# EAGLE library part SP314 (library dec-con)
7-Input NOR gate
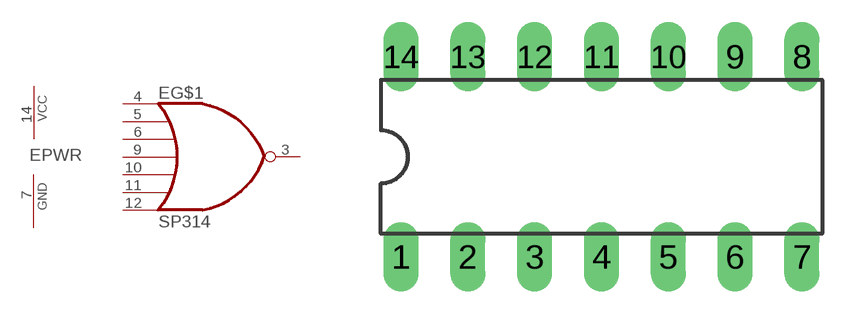
[diagram p13: symbol with the pads of DIL14; footprint DIL14]

Designator prefix E; gates PWR=PWRN G$1=NOR7

## SP314N  [DIL14]
3  G$1:O  out
4  G$1:I0  in
5  G$1:I1  in
6  G$1:I2  in
7  PWR:GND  pwr
9  G$1:I3  in
10  G$1:I4  in
11  G$1:I5  in
12  G$1:I6  in
14  PWR:VCC  pwr

## Footprint DIL14 (pad centres in mm)
Dual In Line Package
drill 0.813 long: 1 -7.62,-3.81; 2 -5.08,-3.81; 3 -2.54,-3.81; 4 0,-3.81; 5 2.54,-3.81; 6 5.08,-3.81; 7 7.62,-3.81; 8 7.62,3.81; 9 5.08,3.81; 10 2.54,3.81; 11 0,3.81; 12 -2.54,3.81; 13 -5.08,3.81; 14 -7.62,3.81